# EAGLE library part 1365-24 (library con-leotronics)
DUAL ROW STRAIGHT HEADER 1364 SERIES. 1.27mm x 1.27mm. Without Fixing Post. SMT Source: http://www.leotronics.co.uk/Conexcon/Data%20Sheets/sec.%20A/1364ing.pdf
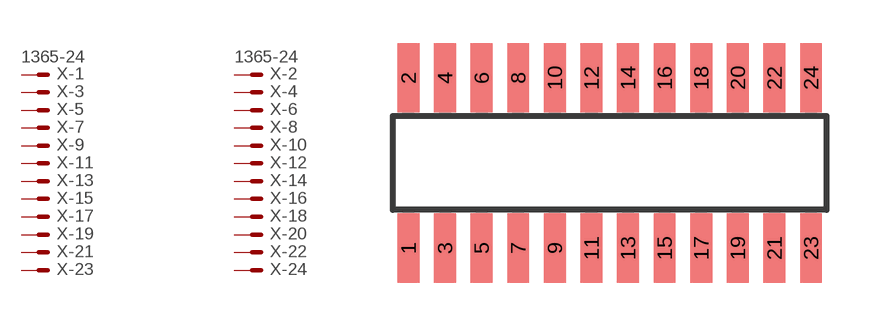
[diagram p88: symbol with the pads of 1365-24; footprint 1365-24]

Designator prefix X; gates -1=MVAL -2=MVAL -3=M -4=M -5=M -6=M -7=M -8=M -9=M -10=M -11=M -12=M -13=M -14=M -15=M -16=M -17=M -18=M -19=M -20=M -21=M -22=M -23=M -24=M

## 1365-24 (OC_FARNELL: unknown; OC_NEWARK: unknown)  [1365-24]
1  -1:S  pas
2  -2:S  pas
3  -3:S  pas
4  -4:S  pas
5  -5:S  pas
6  -6:S  pas
7  -7:S  pas
8  -8:S  pas
9  -9:S  pas
10  -10:S  pas
11  -11:S  pas
12  -12:S  pas
13  -13:S  pas
14  -14:S  pas
15  -15:S  pas
16  -16:S  pas
17  -17:S  pas
18  -18:S  pas
19  -19:S  pas
20  -20:S  pas
21  -21:S  pas
22  -22:S  pas
23  -23:S  pas
24  -24:S  pas

## Footprint 1365-24 (pad centres in mm)
DUAL ROW STRAIGHT HEADER 1364 SERIES. 1.27mm x 1.27mm. Without Fixing Post. SMT Source: http://www.leotronics.co.uk/Conexcon/Data%20Sheets/sec.%20A/1364ing.pdf
smd 0.76 x 2.4: 1 -6.985,-2.95; 2 -6.985,2.95; 3 -5.715,-2.95; 4 -5.715,2.95; 5 -4.445,-2.95; 6 -4.445,2.95; 7 -3.175,-2.95; 8 -3.175,2.95; 9 -1.905,-2.95; 10 -1.905,2.95; 11 -0.635,-2.95; 12 -0.635,2.95; 13 0.635,-2.95; 14 0.635,2.95; 15 1.905,-2.95; 16 1.905,2.95; 17 3.175,-2.95; 18 3.175,2.95; 19 4.445,-2.95; 20 4.445,2.95; 21 5.715,-2.95; 22 5.715,2.95; 23 6.985,-2.95; 24 6.985,2.95